# EAGLE library part H3LIS100DL (library LIS3DHTR)
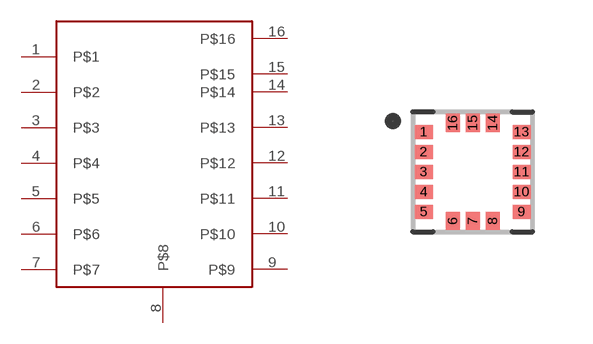
[diagram p1: symbol with the pads of XDCR_LIS3DHTR; footprint XDCR_LIS3DHTR]

Designator prefix -

## H3LIS100DL  [XDCR_LIS3DHTR]
1  P$1
2  P$2
3  P$3
4  P$4
5  P$5
6  P$6
7  P$7
8  P$8
9  P$9
10  P$10
11  P$11
12  P$12
13  P$13
14  P$14
15  P$15
16  P$16

## Footprint XDCR_LIS3DHTR (pad centres in mm)
smd 0.45 x 0.35: 1 -1.225,1; 2 -1.225,0.5; 3 -1.225,0; 4 -1.225,-0.5; 5 -1.225,-1; 9 1.225,-1; 10 1.225,-0.5; 11 1.225,0; 12 1.225,0.5; 13 1.225,1
smd 0.35 x 0.45: 6 -0.5,-1.225; 7 0,-1.225; 8 0.5,-1.225; 14 0.5,1.225; 15 0,1.225; 16 -0.5,1.225